# Altium schematic symbol library SCH - MCU - STM32 - ST MICROELECTRONICS STM32L151VDTX LQFP100.SchLib: 1 symbol
Pins are listed as number, name and electrical type; pins without a type are passive.

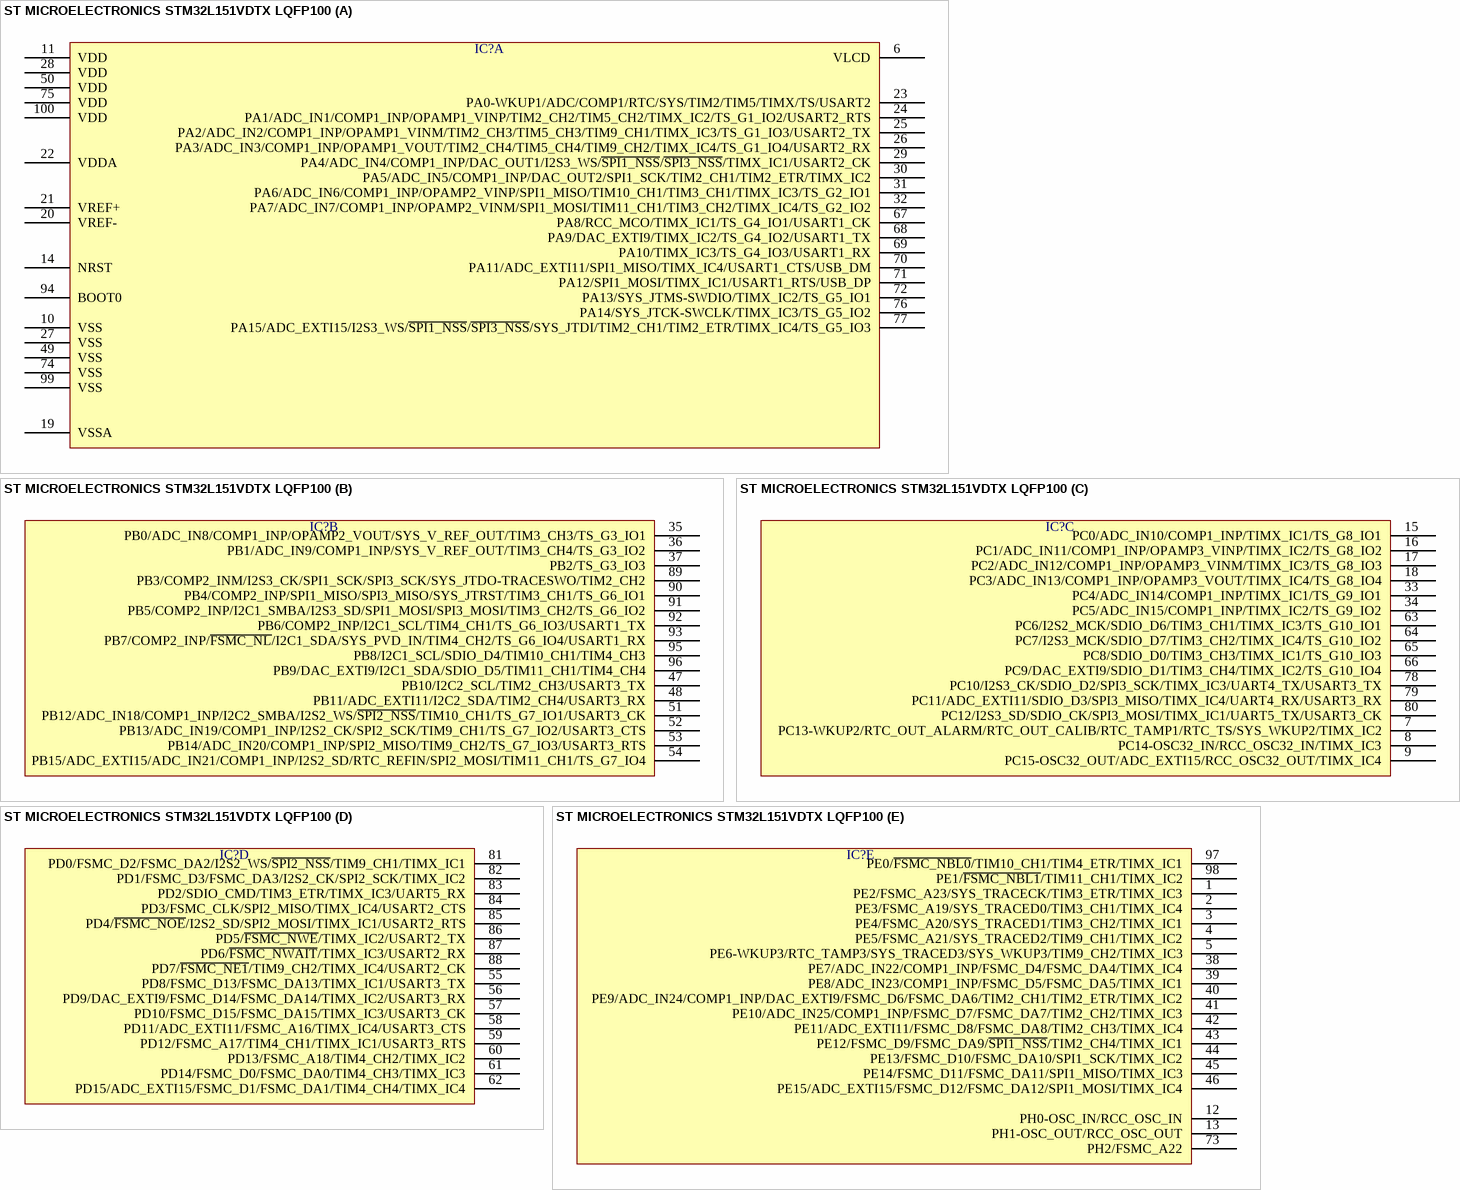
[diagram p0: symbol ST MICROELECTRONICS STM32L151VDTX LQFP100]

## ST MICROELECTRONICS STM32L151VDTX LQFP100
designator IC?  (value not drawn)
part A pins: 6 VLCD, 10 VSS, 11 VDD, 14 NRST, 19 VSSA, 20 VREF-, 21 VREF+, 22 VDDA, 23 PA0-WKUP1/ADC/COMP1/RTC/SYS/TIM2/TIM5/TIMX/TS/USART2, 24 PA1/ADC_IN1/COMP1_INP/OPAMP1_VINP/TIM2_CH2/TIM5_CH2/TIMX_IC2/TS_G1_IO2/USART2_RTS, 25 PA2/ADC_IN2/COMP1_INP/OPAMP1_VINM/TIM2_CH3/TIM5_CH3/TIM9_CH1/TIMX_IC3/TS_G1_IO3/USART2_TX, 26 PA3/ADC_IN3/COMP1_INP/OPAMP1_VOUT/TIM2_CH4/TIM5_CH4/TIM9_CH2/TIMX_IC4/TS_G1_IO4/USART2_RX, 27 VSS, 28 VDD, 29 PA4/ADC_IN4/COMP1_INP/DAC_OUT1/I2S3_WS/~{SPI1_NSS}/~{SPI3_NSS}/TIMX_IC1/USART2_CK, 30 PA5/ADC_IN5/COMP1_INP/DAC_OUT2/SPI1_SCK/TIM2_CH1/TIM2_ETR/TIMX_IC2, 31 PA6/ADC_IN6/COMP1_INP/OPAMP2_VINP/SPI1_MISO/TIM10_CH1/TIM3_CH1/TIMX_IC3/TS_G2_IO1, 32 PA7/ADC_IN7/COMP1_INP/OPAMP2_VINM/SPI1_MOSI/TIM11_CH1/TIM3_CH2/TIMX_IC4/TS_G2_IO2, 49 VSS, 50 VDD, 67 PA8/RCC_MCO/TIMX_IC1/TS_G4_IO1/USART1_CK, 68 PA9/DAC_EXTI9/TIMX_IC2/TS_G4_IO2/USART1_TX, 69 PA10/TIMX_IC3/TS_G4_IO3/USART1_RX, 70 PA11/ADC_EXTI11/SPI1_MISO/TIMX_IC4/USART1_CTS/USB_DM, 71 PA12/SPI1_MOSI/TIMX_IC1/USART1_RTS/USB_DP, 72 PA13/SYS_JTMS-SWDIO/TIMX_IC2/TS_G5_IO1, 74 VSS, 75 VDD, 76 PA14/SYS_JTCK-SWCLK/TIMX_IC3/TS_G5_IO2, 77 PA15/ADC_EXTI15/I2S3_WS/~{SPI1_NSS}/~{SPI3_NSS}/SYS_JTDI/TIM2_CH1/TIM2_ETR/TIMX_IC4/TS_G5_IO3, 94 BOOT0, 99 VSS, 100 VDD
part B pins: 35 PB0/ADC_IN8/COMP1_INP/OPAMP2_VOUT/SYS_V_REF_OUT/TIM3_CH3/TS_G3_IO1, 36 PB1/ADC_IN9/COMP1_INP/SYS_V_REF_OUT/TIM3_CH4/TS_G3_IO2, 37 PB2/TS_G3_IO3, 47 PB10/I2C2_SCL/TIM2_CH3/USART3_TX, 48 PB11/ADC_EXTI11/I2C2_SDA/TIM2_CH4/USART3_RX, 51 PB12/ADC_IN18/COMP1_INP/I2C2_SMBA/I2S2_WS/~{SPI2_NSS}/TIM10_CH1/TS_G7_IO1/USART3_CK, 52 PB13/ADC_IN19/COMP1_INP/I2S2_CK/SPI2_SCK/TIM9_CH1/TS_G7_IO2/USART3_CTS, 53 PB14/ADC_IN20/COMP1_INP/SPI2_MISO/TIM9_CH2/TS_G7_IO3/USART3_RTS, 54 PB15/ADC_EXTI15/ADC_IN21/COMP1_INP/I2S2_SD/RTC_REFIN/SPI2_MOSI/TIM11_CH1/TS_G7_IO4, 89 PB3/COMP2_INM/I2S3_CK/SPI1_SCK/SPI3_SCK/SYS_JTDO-TRACESWO/TIM2_CH2, 90 PB4/COMP2_INP/SPI1_MISO/SPI3_MISO/SYS_JTRST/TIM3_CH1/TS_G6_IO1, 91 PB5/COMP2_INP/I2C1_SMBA/I2S3_SD/SPI1_MOSI/SPI3_MOSI/TIM3_CH2/TS_G6_IO2, 92 PB6/COMP2_INP/I2C1_SCL/TIM4_CH1/TS_G6_IO3/USART1_TX, 93 PB7/COMP2_INP/~{FSMC_NL}/I2C1_SDA/SYS_PVD_IN/TIM4_CH2/TS_G6_IO4/USART1_RX, 95 PB8/I2C1_SCL/SDIO_D4/TIM10_CH1/TIM4_CH3, 96 PB9/DAC_EXTI9/I2C1_SDA/SDIO_D5/TIM11_CH1/TIM4_CH4
part C pins: 7 PC13-WKUP2/RTC_OUT_ALARM/RTC_OUT_CALIB/RTC_TAMP1/RTC_TS/SYS_WKUP2/TIMX_IC2, 8 PC14-OSC32_IN/RCC_OSC32_IN/TIMX_IC3, 9 PC15-OSC32_OUT/ADC_EXTI15/RCC_OSC32_OUT/TIMX_IC4, 15 PC0/ADC_IN10/COMP1_INP/TIMX_IC1/TS_G8_IO1, 16 PC1/ADC_IN11/COMP1_INP/OPAMP3_VINP/TIMX_IC2/TS_G8_IO2, 17 PC2/ADC_IN12/COMP1_INP/OPAMP3_VINM/TIMX_IC3/TS_G8_IO3, 18 PC3/ADC_IN13/COMP1_INP/OPAMP3_VOUT/TIMX_IC4/TS_G8_IO4, 33 PC4/ADC_IN14/COMP1_INP/TIMX_IC1/TS_G9_IO1, 34 PC5/ADC_IN15/COMP1_INP/TIMX_IC2/TS_G9_IO2, 63 PC6/I2S2_MCK/SDIO_D6/TIM3_CH1/TIMX_IC3/TS_G10_IO1, 64 PC7/I2S3_MCK/SDIO_D7/TIM3_CH2/TIMX_IC4/TS_G10_IO2, 65 PC8/SDIO_D0/TIM3_CH3/TIMX_IC1/TS_G10_IO3, 66 PC9/DAC_EXTI9/SDIO_D1/TIM3_CH4/TIMX_IC2/TS_G10_IO4, 78 PC10/I2S3_CK/SDIO_D2/SPI3_SCK/TIMX_IC3/UART4_TX/USART3_TX, 79 PC11/ADC_EXTI11/SDIO_D3/SPI3_MISO/TIMX_IC4/UART4_RX/USART3_RX, 80 PC12/I2S3_SD/SDIO_CK/SPI3_MOSI/TIMX_IC1/UART5_TX/USART3_CK
part D pins: 55 PD8/FSMC_D13/FSMC_DA13/TIMX_IC1/USART3_TX, 56 PD9/DAC_EXTI9/FSMC_D14/FSMC_DA14/TIMX_IC2/USART3_RX, 57 PD10/FSMC_D15/FSMC_DA15/TIMX_IC3/USART3_CK, 58 PD11/ADC_EXTI11/FSMC_A16/TIMX_IC4/USART3_CTS, 59 PD12/FSMC_A17/TIM4_CH1/TIMX_IC1/USART3_RTS, 60 PD13/FSMC_A18/TIM4_CH2/TIMX_IC2, 61 PD14/FSMC_D0/FSMC_DA0/TIM4_CH3/TIMX_IC3, 62 PD15/ADC_EXTI15/FSMC_D1/FSMC_DA1/TIM4_CH4/TIMX_IC4, 81 PD0/FSMC_D2/FSMC_DA2/I2S2_WS/~{SPI2_NSS}/TIM9_CH1/TIMX_IC1, 82 PD1/FSMC_D3/FSMC_DA3/I2S2_CK/SPI2_SCK/TIMX_IC2, 83 PD2/SDIO_CMD/TIM3_ETR/TIMX_IC3/UART5_RX, 84 PD3/FSMC_CLK/SPI2_MISO/TIMX_IC4/USART2_CTS, 85 PD4/~{FSMC_NOE}/I2S2_SD/SPI2_MOSI/TIMX_IC1/USART2_RTS, 86 PD5/~{FSMC_NWE}/TIMX_IC2/USART2_TX, 87 PD6/~{FSMC_NWAIT}/TIMX_IC3/USART2_RX, 88 PD7/~{FSMC_NE1}/TIM9_CH2/TIMX_IC4/USART2_CK
part E pins: 1 PE2/FSMC_A23/SYS_TRACECK/TIM3_ETR/TIMX_IC3, 2 PE3/FSMC_A19/SYS_TRACED0/TIM3_CH1/TIMX_IC4, 3 PE4/FSMC_A20/SYS_TRACED1/TIM3_CH2/TIMX_IC1, 4 PE5/FSMC_A21/SYS_TRACED2/TIM9_CH1/TIMX_IC2, 5 PE6-WKUP3/RTC_TAMP3/SYS_TRACED3/SYS_WKUP3/TIM9_CH2/TIMX_IC3, 12 PH0-OSC_IN/RCC_OSC_IN, 13 PH1-OSC_OUT/RCC_OSC_OUT, 38 PE7/ADC_IN22/COMP1_INP/FSMC_D4/FSMC_DA4/TIMX_IC4, 39 PE8/ADC_IN23/COMP1_INP/FSMC_D5/FSMC_DA5/TIMX_IC1, 40 PE9/ADC_IN24/COMP1_INP/DAC_EXTI9/FSMC_D6/FSMC_DA6/TIM2_CH1/TIM2_ETR/TIMX_IC2, 41 PE10/ADC_IN25/COMP1_INP/FSMC_D7/FSMC_DA7/TIM2_CH2/TIMX_IC3, 42 PE11/ADC_EXTI11/FSMC_D8/FSMC_DA8/TIM2_CH3/TIMX_IC4, 43 PE12/FSMC_D9/FSMC_DA9/~{SPI1_NSS}/TIM2_CH4/TIMX_IC1, 44 PE13/FSMC_D10/FSMC_DA10/SPI1_SCK/TIMX_IC2, 45 PE14/FSMC_D11/FSMC_DA11/SPI1_MISO/TIMX_IC3, 46 PE15/ADC_EXTI15/FSMC_D12/FSMC_DA12/SPI1_MOSI/TIMX_IC4, 73 PH2/FSMC_A22, 97 PE0/~{FSMC_NBL0}/TIM10_CH1/TIM4_ETR/TIMX_IC1, 98 PE1/~{FSMC_NBL1}/TIM11_CH1/TIMX_IC2